# EAGLE library part HI9P0201HS-9 (library Intersil_By_element14_Batch_1)
CMOS Analog Switch
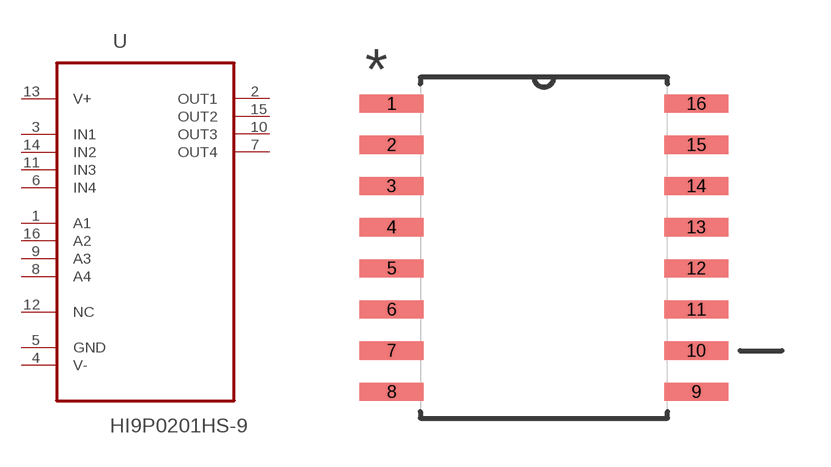
[diagram p134: symbol with the pads of SOIC127P1032X265-16N; footprint SOIC127P1032X265-16N]

Designator prefix U

## HI9P0201HS-9 (MPN: HI9P0201HS-9; OC_FARNELL: 9795820; OC_NEWARK: -; PACKAGE: SOIC-16; SUPPLIER: INTERSIL)  [SOIC127P1032X265-16N]
1  A1  in
2  OUT1  out
3  IN1  in
4  V-  in
5  GND  pas
6  IN4  in
7  OUT4  out
8  A4  out
9  A3  nc
10  OUT3  out
11  IN3  in
12  NC  nc
13  V+  in
14  IN2  in
15  OUT2  out
16  A2  in

## Footprint SOIC127P1032X265-16N (pad centres in mm)
smd 1.981 x 0.559: 1 -4.699,4.445; 2 -4.699,3.175; 3 -4.699,1.905; 4 -4.699,0.635; 5 -4.699,-0.635; 6 -4.699,-1.905; 7 -4.699,-3.175; 8 -4.699,-4.445; 9 4.699,-4.445; 10 4.699,-3.175; 11 4.699,-1.905; 12 4.699,-0.635; 13 4.699,0.635; 14 4.699,1.905; 15 4.699,3.175; 16 4.699,4.445